# Altium schematic symbol library RES 10k 1_8W 5%.Schlib: 1 symbol
Pins are listed as number, name and electrical type; pins without a type are passive.

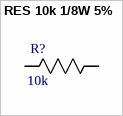
[diagram p0: symbol RES 10k 1/8W 5%]

## RES 10k 1/8W 5%
designator R?, comment 10k
RES SMD 10K OHM 5% 1/8W 0603; Power (Watts): 0.125W; Package: 0805; Value: 10k; Tolerance: 5%
footprint 0603
pins: 1 R1, 2 R2